# EAGLE library part FAST_MOSFET_N-CHANNEL_2-ARRAY (library PiB_transistors)
Fast Switching NMOS Array
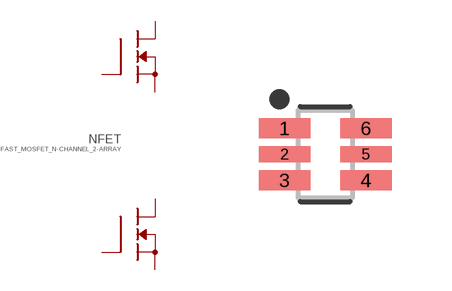
[diagram p2: symbol with the pads of SOT65P210X110-6M; footprint SOT65P210X110-6M]

Designator prefix NFET

## FAST_MOSFET_N-CHANNEL_2-ARRAY_BSS138PS (DATASHEET: https://assets.nexperia.com/documents/data-sheet/BSS138PS.pdf; DIST: Digikey; DISTLINK: https://www.digikey.com/product-detail/en/micro-commercial-co/2N7002DW-TP/2N7002DW-TPCT-ND/819647; DISTPN: 2N7002DW-TPCT-ND; MFR: Micro Commercial Co; MPN: 2N7002DW-TP; VALUE: 350mA)  [SOT65P210X110-6M]
1  S1  pas
2  G1  pas
3  D2  pas
4  S2  pas
5  G2  pas
6  D1  pas

## Footprint SOT65P210X110-6M (pad centres in mm)
6-SOT23, 0.65 mm pitch, 2.10 mm span, 2.00 X 1.25 X 1.10 mm body 6-pin SOT23 package with 0.65 mm pitch, 2.10 mm span with body size 2.00 X 1.25 X 1.10 mm
smd 1.288 x 0.5: 1 -1.02,0.65; 3 -1.02,-0.65; 4 1.02,-0.65; 6 1.02,0.65
smd 1.288 x 0.4: 2 -1.02,0; 5 1.02,0